# EAGLE library part ARD_UNO (library arduino_uno)
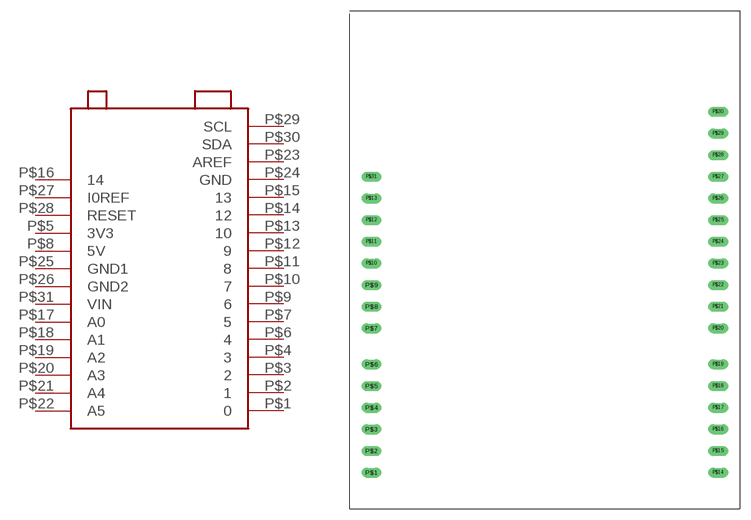
[diagram p0: symbol with the pads of ARD_UNO; footprint ARD_UNO]

Designator prefix -

## ARD_UNO  [ARD_UNO]
P$1  0
P$2  1
P$3  2
P$4  3
P$5  3V3
P$6  4
P$7  5
P$8  5V
P$9  6
P$10  7
P$11  8
P$12  9
P$13  10
P$14  12
P$15  13
P$16  14
P$17  A0
P$18  A1
P$19  A2
P$20  A3
P$21  A4
P$22  A5
P$23  AREF
P$24  GND
P$25  GND1
P$26  GND2
P$27  I0REF
P$28  RESET
P$29  SCL
P$30  SDA
P$31  VIN

## Footprint ARD_UNO (pad centres in mm)
drill 0.9 long: P$1 -24,-32; P$2 -24,-29; P$3 -24,-26; P$4 -24,-23; P$5 -24,-20; P$6 -24,-17; P$7 -24,-12; P$8 -24,-9; P$9 -24,-6; P$10 -24,-3; P$11 -24,0; P$12 -24,3; P$13 -24,6; P$14 24,-32; P$15 24,-29; P$16 24,-26; P$17 24,-23; P$18 24,-20; P$19 24,-17; P$20 24,-12; P$21 24,-9; P$22 24,-6; P$23 24,-3; P$24 24,0; P$25 24,3; P$26 24,6; P$27 24,9; P$28 24,12; P$29 24,15; P$30 24,18; P$31 -24,9